# EAGLE library part TEN60-P6-S24-S24-P6-VERT (library Connectors)
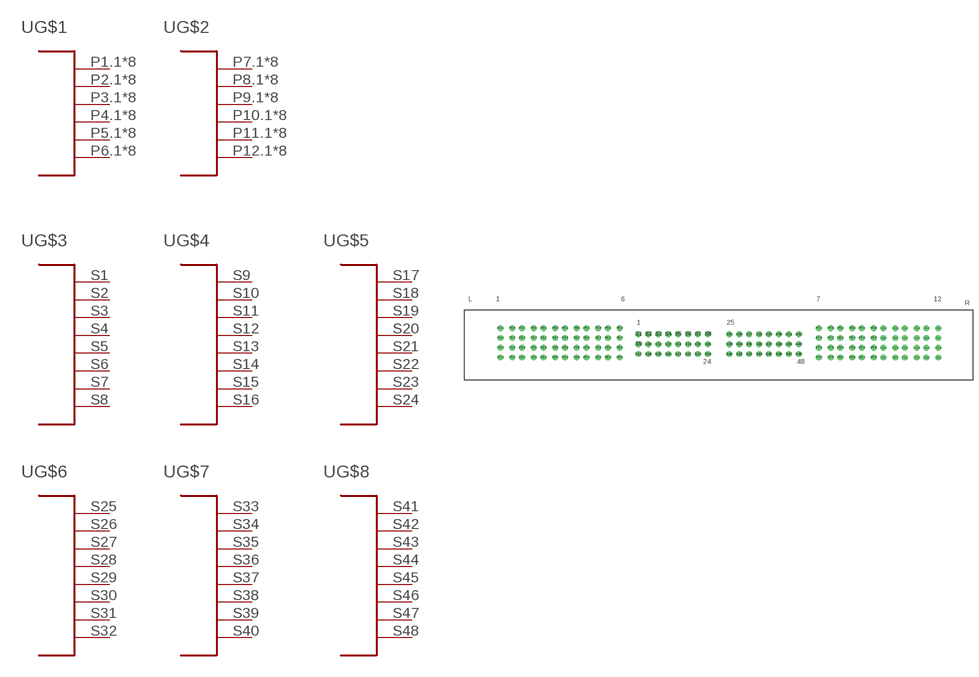
[diagram p9: symbol with the pads of TEN60-P6-S24-S24-P6-VERT; footprint TEN60-P6-S24-S24-P6-VERT]

Designator prefix -; gates G$1=TEN60-6-PWR G$2=TEN60-6-PWR G$3=TEN60-8-SIG G$4=TEN60-8-SIG G$5=TEN60-8-SIG G$6=TEN60-8-SIG G$7=TEN60-8-SIG G$8=TEN60-8-SIG

## TEN60-P6-S24-S24-P6-VERT  [TEN60-P6-S24-S24-P6-VERT]
P1.1  G$1:P$1
P1.2  G$1:P$1
P1.3  G$1:P$1
P1.4  G$1:P$1
P1.5  G$1:P$1
P1.6  G$1:P$1
P1.7  G$1:P$1
P1.8  G$1:P$1
P2.1  G$1:P$2
P2.2  G$1:P$2
P2.3  G$1:P$2
P2.4  G$1:P$2
P2.5  G$1:P$2
P2.6  G$1:P$2
P2.7  G$1:P$2
P2.8  G$1:P$2
P3.1  G$1:P$3
P3.2  G$1:P$3
P3.3  G$1:P$3
P3.4  G$1:P$3
P3.5  G$1:P$3
P3.6  G$1:P$3
P3.7  G$1:P$3
P3.8  G$1:P$3
P4.1  G$1:P$4
P4.2  G$1:P$4
P4.3  G$1:P$4
P4.4  G$1:P$4
P4.5  G$1:P$4
P4.6  G$1:P$4
P4.7  G$1:P$4
P4.8  G$1:P$4
P5.1  G$1:P$5
P5.2  G$1:P$5
P5.3  G$1:P$5
P5.4  G$1:P$5
P5.5  G$1:P$5
P5.6  G$1:P$5
P5.7  G$1:P$5
P5.8  G$1:P$5
P6.1  G$1:P$6
P6.2  G$1:P$6
P6.3  G$1:P$6
P6.4  G$1:P$6
P6.5  G$1:P$6
P6.6  G$1:P$6
P6.7  G$1:P$6
P6.8  G$1:P$6
P7.1  G$2:P$1
P7.2  G$2:P$1
P7.3  G$2:P$1
P7.4  G$2:P$1
P7.5  G$2:P$1
P7.6  G$2:P$1
P7.7  G$2:P$1
P7.8  G$2:P$1
P8.1  G$2:P$2
P8.2  G$2:P$2
P8.3  G$2:P$2
P8.4  G$2:P$2
P8.5  G$2:P$2
P8.6  G$2:P$2
P8.7  G$2:P$2
P8.8  G$2:P$2
P9.1  G$2:P$3
P9.2  G$2:P$3
P9.3  G$2:P$3
P9.4  G$2:P$3
P9.5  G$2:P$3
P9.6  G$2:P$3
P9.7  G$2:P$3
P9.8  G$2:P$3
P10.1  G$2:P$4
P10.2  G$2:P$4
P10.3  G$2:P$4
P10.4  G$2:P$4
P10.5  G$2:P$4
P10.6  G$2:P$4
P10.7  G$2:P$4
P10.8  G$2:P$4
P11.1  G$2:P$5
P11.2  G$2:P$5
P11.3  G$2:P$5
P11.4  G$2:P$5
P11.5  G$2:P$5
P11.6  G$2:P$5
P11.7  G$2:P$5
P11.8  G$2:P$5
P12.1  G$2:P$6
P12.2  G$2:P$6
P12.3  G$2:P$6
P12.4  G$2:P$6
P12.5  G$2:P$6
P12.6  G$2:P$6
P12.7  G$2:P$6
P12.8  G$2:P$6
S1  G$3:P$1
S2  G$3:P$2
S3  G$3:P$3
S4  G$3:P$4
S5  G$3:P$5
S6  G$3:P$6
S7  G$3:P$7
S8  G$3:P$8
S9  G$4:P$1
S10  G$4:P$2
S11  G$4:P$3
S12  G$4:P$4
S13  G$4:P$5
S14  G$4:P$6
S15  G$4:P$7
S16  G$4:P$8
S17  G$5:P$1
S18  G$5:P$2
S19  G$5:P$3
S20  G$5:P$4
S21  G$5:P$5
S22  G$5:P$6
S23  G$5:P$7
S24  G$5:P$8
S25  G$6:P$1
S26  G$6:P$2
S27  G$6:P$3
S28  G$6:P$4
S29  G$6:P$5
S30  G$6:P$6
S31  G$6:P$7
S32  G$6:P$8
S33  G$7:P$1
S34  G$7:P$2
S35  G$7:P$3
S36  G$7:P$4
S37  G$7:P$5
S38  G$7:P$6
S39  G$7:P$7
S40  G$7:P$8
S41  G$8:P$1
S42  G$8:P$2
S43  G$8:P$3
S44  G$8:P$4
S45  G$8:P$5
S46  G$8:P$6
S47  G$8:P$7
S48  G$8:P$8

## Footprint TEN60-P6-S24-S24-P6-VERT (pad centres in mm)
drill 1: P1.1 9.18,13.25; P1.2 9.18,10.75; P1.3 9.18,8.25; P1.4 9.18,5.75; P1.5 12.18,5.75; P1.6 12.18,8.25; P1.7 12.18,10.75; P1.8 12.18,13.25; P2.1 14.68,13.25; P2.2 14.68,10.75; P2.3 14.68,8.25; P2.4 14.68,5.75; P2.5 17.68,5.75; P2.6 17.68,8.25; P2.7 17.68,10.75; P2.8 17.68,13.25; P3.1 20.18,13.25; P3.2 20.18,10.75; P3.3 20.18,8.25; P3.4 20.18,5.75; P3.5 23.18,5.75; P3.6 23.18,8.25; P3.7 23.18,10.75; P3.8 23.18,13.25; P4.1 25.68,13.25; P4.2 25.68,10.75; P4.3 25.68,8.25; P4.4 25.68,5.75; P4.5 28.68,5.75; P4.6 28.68,8.25; P4.7 28.68,10.75; P4.8 28.68,13.25; P5.1 31.18,13.25; P5.2 31.18,10.75; P5.3 31.18,8.25; P5.4 31.18,5.75; P5.5 34.18,5.75; P5.6 34.18,8.25; P5.7 34.18,10.75; P5.8 34.18,13.25; P6.1 36.68,13.25; P6.2 36.68,10.75; P6.3 36.68,8.25; P6.4 36.68,5.75; P6.5 39.68,5.75; P6.6 39.68,8.25; P6.7 39.68,10.75; P6.8 39.68,13.25; P7.1 90.68,13.25; P7.2 90.68,10.75; P7.3 90.68,8.25; P7.4 90.68,5.75; P7.5 93.68,5.75; P7.6 93.68,8.25; P7.7 93.68,10.75; P7.8 93.68,13.25; P8.1 96.18,13.25; P8.2 96.18,10.75; P8.3 96.18,8.25; P8.4 96.18,5.75; P8.5 99.18,5.75; P8.6 99.18,8.25; P8.7 99.18,10.75; P8.8 99.18,13.25; P9.1 101.68,13.25; P9.2 101.68,10.75; P9.3 101.68,8.25; P9.4 101.68,5.75; P9.5 104.68,5.75; P9.6 104.68,8.25; P9.7 104.68,10.75; P9.8 104.68,13.25; P10.1 107.18,13.25; P10.2 107.18,10.75; P10.3 107.18,8.25; P10.4 107.18,5.75; P10.5 110.18,5.75; P10.6 110.18,8.25; P10.7 110.18,10.75; P10.8 110.18,13.25; P11.1 112.68,13.25; P11.2 112.68,10.75; P11.3 112.68,8.25; P11.4 112.68,5.75; P11.5 115.68,5.75; P11.6 115.68,8.25; P11.7 115.68,10.75; P11.8 115.68,13.25; P12.1 118.18,13.25; P12.2 118.18,10.75; P12.3 118.18,8.25; P12.4 118.18,5.75; P12.5 121.18,5.75; P12.6 121.18,8.25; P12.7 121.18,10.75; P12.8 121.18,13.25; S1 44.49,11.74; S2 47.03,11.74; S3 49.57,11.74; S4 52.11,11.74; S5 54.65,11.74; S6 57.19,11.74; S7 59.73,11.74; S8 62.27,11.74; S9 44.49,9.2; S10 47.03,9.2; S11 49.57,9.2; S12 52.11,9.2; S13 54.65,9.2; S14 57.19,9.2; S15 59.73,9.2; S16 62.27,9.2; S17 44.49,6.66; S18 47.03,6.66; S19 49.57,6.66; S20 52.11,6.66; S21 54.65,6.66; S22 57.19,6.66; S23 59.73,6.66; S24 62.27,6.66; S25 67.73,11.74; S26 70.27,11.74; S27 72.81,11.74; S28 75.35,11.74; S29 77.89,11.74; S30 80.43,11.74; S31 82.97,11.74; S32 85.51,11.74; S33 67.73,9.2; S34 70.27,9.2; S35 72.81,9.2; S36 75.35,9.2; S37 77.89,9.2; S38 80.43,9.2; S39 82.97,9.2; S40 85.51,9.2; S41 67.73,6.66; S42 70.27,6.66; S43 72.81,6.66; S44 75.35,6.66; S45 77.89,6.66; S46 80.43,6.66; S47 82.97,6.66; S48 85.51,6.66